# Altium footprint library TS12A12511.PcbLib: 3 footprints
Each footprint in its own frame and in the unit in brackets; x right, y up, seen from the top. Pads: shape width x height; smd on the part's side, far side on the other; paste and mask are expansions set on the pad; w line width, h text height; cw(c..) or ccw(c..) is an arc to the next point about the centre after c.
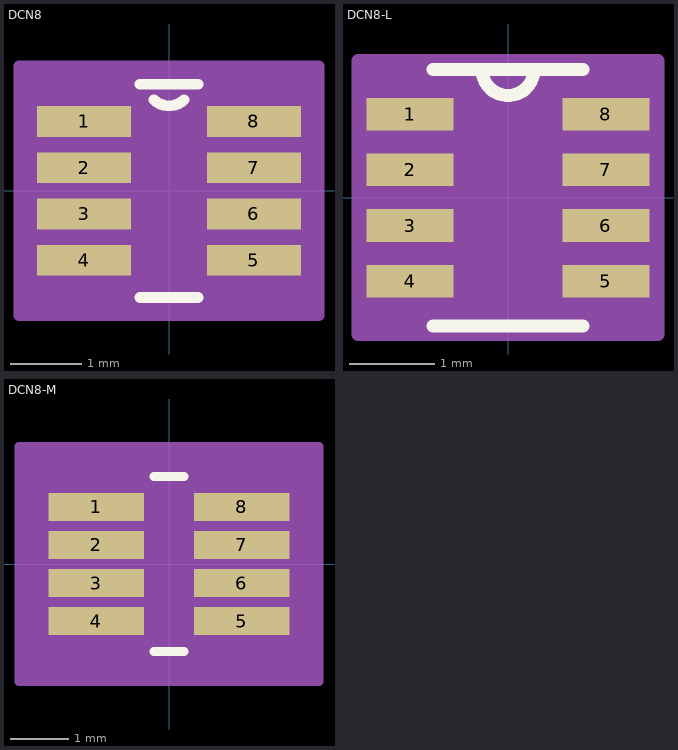
[diagram p0: the footprints below, top view; thin cyan lines are the x and y axes]

## DCN8 [mil]
pads (8):
  rect 52x17 smd: 1(-47,38.39) 2(-47,12.8) 3(-47,-12.8) 4(-47,-38.39) 5(47,-38.39) 6(47,-12.8) 7(47,12.8) 8(47,38.39)
Top Overlay:
  lines w6: -16.01,-59 16.01,-59 ; -16.01,59 16.01,59 ; -8.38,50.41 ccw(c0,59) 8.38,50.41
Mechanical 13:
  lines w0: -12,59 ccw(c0,59) 12,59
  lines w1: -59,-45.89 -34.5,-45.89 -34.5,-30.89 -59,-30.89 -59,-45.89 ; -59,-20.3 -34.5,-20.3 -34.5,-5.3 -59,-5.3 -59,-20.3 ; -59,5.3 -34.5,5.3 -34.5,20.3 -59,20.3 -59,5.3 ; -59,30.89 -34.5,30.89 -34.5,45.89 -59,45.89 -59,30.89 ; -34.5,-59 -34.5,59 34.5,59 34.5,-59 -34.5,-59 ; 34.5,-45.89 59,-45.89 59,-30.89 34.5,-30.89 34.5,-45.89 ; 34.5,-20.3 59,-20.3 59,-5.3 34.5,-5.3 34.5,-20.3 ; 34.5,5.3 59,5.3 59,20.3 34.5,20.3 34.5,5.3 ; 34.5,30.89 59,30.89 59,45.89 34.5,45.89 34.5,30.89
Mechanical 15:
  region: 83,-69 -83,-69 -83,69 83,69
  lines w6: -83,-69 83,-69 83,69 -83,69 -83,-69
3D body "DCN8.step": height 57.09, standoff 0, extent -59.01,-59.01 59.02,59.02

## DCN8-L [mil]
pads (8):
  rect 40x15 smd: 1(-45,38.39) 2(-45,12.8) 3(-45,-12.8) 4(-45,-38.39) 5(45,-38.39) 6(45,-12.8) 7(45,12.8) 8(45,38.39)
Top Overlay:
  lines w6: -34.5,-59 34.5,-59 ; -34.5,59 34.5,59 ; -12,59 ccw(c0,59) 12,59
Mechanical 13:
  lines w0: -12,59 ccw(c0,59) 12,59
  lines w1: -59,-45.89 -59,-30.89 -34.5,-30.89 -34.5,-45.89 -59,-45.89 ; -59,-20.3 -59,-5.3 -34.5,-5.3 -34.5,-20.3 -59,-20.3 ; -59,5.3 -59,20.3 -34.5,20.3 -34.5,5.3 -59,5.3 ; -59,30.89 -59,45.89 -34.5,45.89 -34.5,30.89 -59,30.89 ; -34.5,-59 34.5,-59 34.5,59 -34.5,59 -34.5,-59 ; 34.5,-45.89 34.5,-30.89 59,-30.89 59,-45.89 34.5,-45.89 ; 34.5,-20.3 34.5,-5.3 59,-5.3 59,-20.3 34.5,-20.3 ; 34.5,5.3 34.5,20.3 59,20.3 59,5.3 34.5,5.3 ; 34.5,30.89 34.5,45.89 59,45.89 59,30.89 34.5,30.89
Mechanical 15:
  region: 69,-63 -69,-63 -69,63 69,63
  lines w6: -69,-63 -69,63 69,63 69,-63 -69,-63
3D body "DCN8-L.step": height 57.09, standoff 0, extent -59.01,-59 59.02,59.02

## DCN8-M [mil]
pads (8):
  rect 64x19 smd: 1(-49,38.39) 2(-49,12.8) 3(-49,-12.8) 4(-49,-38.39) 5(49,-38.39) 6(49,-12.8) 7(49,12.8) 8(49,38.39)
Top Overlay:
  lines w6: -10.07,-59 10.07,-59 ; -10.07,59 10.07,59
Mechanical 13:
  lines w0: -12,59 ccw(c0,59) 12,59
  lines w1: -59,-45.89 -59,-30.89 -34.5,-30.89 -34.5,-45.89 -59,-45.89 ; -59,-20.3 -59,-5.3 -34.5,-5.3 -34.5,-20.3 -59,-20.3 ; -59,5.3 -59,20.3 -34.5,20.3 -34.5,5.3 -59,5.3 ; -59,30.89 -59,45.89 -34.5,45.89 -34.5,30.89 -59,30.89 ; -34.5,-59 34.5,-59 34.5,59 -34.5,59 -34.5,-59 ; 34.5,-45.89 34.5,-30.89 59,-30.89 59,-45.89 34.5,-45.89 ; 34.5,-20.3 34.5,-5.3 59,-5.3 59,-20.3 34.5,-20.3 ; 34.5,5.3 34.5,20.3 59,20.3 59,5.3 34.5,5.3 ; 34.5,30.89 34.5,45.89 59,45.89 59,30.89 34.5,30.89
Mechanical 15:
  region: 101,-79 -101,-79 -101,79 101,79
  lines w6: -101,-79 -101,79 101,79 101,-79 -101,-79
3D body "DCN8-M.step": height 57.09, standoff 0, extent -59.01,-59.01 59.02,59.02